# Altium schematic symbol library diodes.SchLib: 2 symbols
Pins are listed as number, name and electrical type; pins without a type are passive.

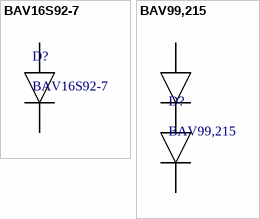
[diagram p0: symbols BAV16S92-7 to BAV99,215]

## BAV16S92-7
designator D?
Diode Standard 75V 150mA Surface Mount SOD-923, fast/ ultra-fast.
footprint SODFL100X40-2N (SODFL, 2-Leads, Body 0,60x1,00mm, IPC Medium Density)
pins: 1, 2

## BAV99,215
designator D?
Diode Standard 100V 215mA Surface Mount SOT23, fast/ ultra-fast 4ns.
footprint SOT95P245X110-3N (SOT23, 3-Leads, Body 2,90x2,45mm, Pitch 0,95mm, IPC Medium Density)
pins: 1, 2, 3, 3